# EAGLE library part UJ2-MIBH-G-SMT-TR (library SamacSys_Parts)
USB Connectors Source: Datasheet
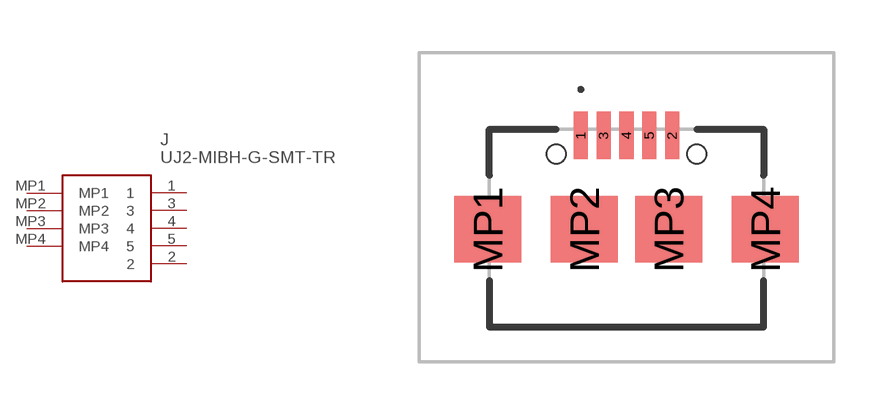
[diagram p3: symbol with the pads of UJ2MIBHGSMTTR; footprint UJ2MIBHGSMTTR]

Designator prefix J

## UJ2-MIBH-G-SMT-TR (DESCRIPTION: USB Connectors; HEIGHT: 3.15mm; MANUFACTURER_NAME: CUI Inc.; MANUFACTURER_PART_NUMBER: UJ2-MIBH-G-SMT-TR; MOUSER_PART_NUMBER: 490-UJ2-MIBH-G-SMTTR; MOUSER_PRICE-STOCK: https://www.mouser.co.uk/ProductDetail/CUI-Devices/UJ2-MIBH-G-SMT-TR?qs=IS%252B4QmGtzzpvS1XQusp0iA%3D%3D)  [UJ2MIBHGSMTTR]
1  1
2  2
3  3
4  4
5  5
MP1  MP1
MP2  MP2
MP3  MP3
MP4  MP4

## Footprint UJ2MIBHGSMTTR (pad centres in mm)
UJ2-MIBH-G-SMT-TR-2
smd 0.4 x 1.35: 1 -1.3,2.64; 2 1.3,2.64; 3 -0.65,2.64; 4 0,2.64; 5 0.65,2.64
smd 1.9 x 1.9: MP1 -3.95,-0.035; MP2 -1.2,-0.035; MP3 1.2,-0.035; MP4 3.95,-0.035
hole 0.55 at -2,2.115
hole 0.55 at 2,2.115